# Altium footprint library Molex Pico SPOX 6 POS RA.PcbLib: 1 footprints
Each footprint in its own frame and in the unit in brackets; x right, y up, seen from the top. Pads: shape width x height; smd on the part's side, far side on the other; paste and mask are expansions set on the pad; w line width, h text height; cw(c..) or ccw(c..) is an arc to the next point about the centre after c.
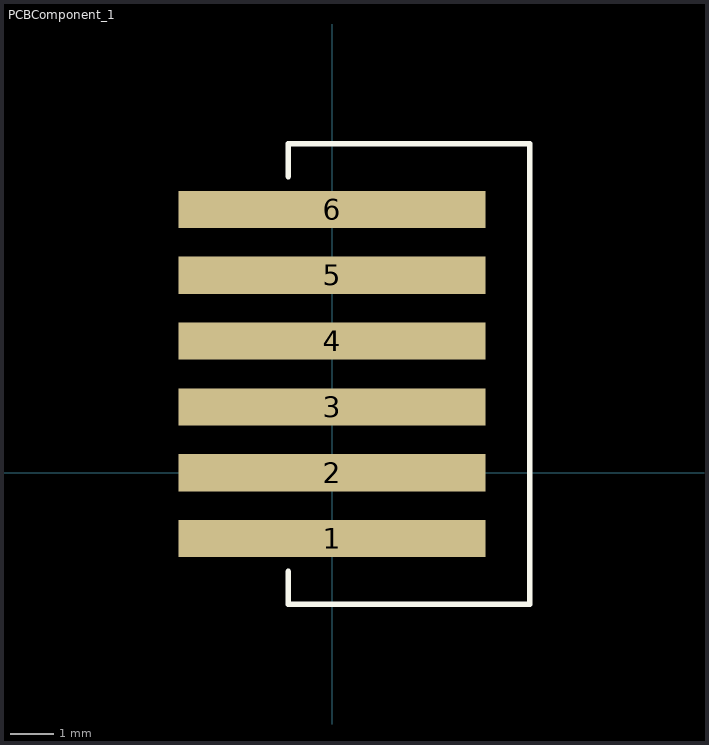
[diagram p0: the footprint, top view; thin cyan lines are the x and y axes]

## PCBComponent_1 [mm]
pads (6):
  rect 7x0.85 smd: 1(0,-1.5) 2(0,0) 3(0,1.5) 4(0,3) 5(0,4.5) 6(0,6)
Top Overlay:
  lines w0.127: -1,-2.25 -1,-3 4.5,-3 4.5,7.5 -1,7.5 -1,6.75